# EAGLE library part STM32F103CBT6 (library IC)
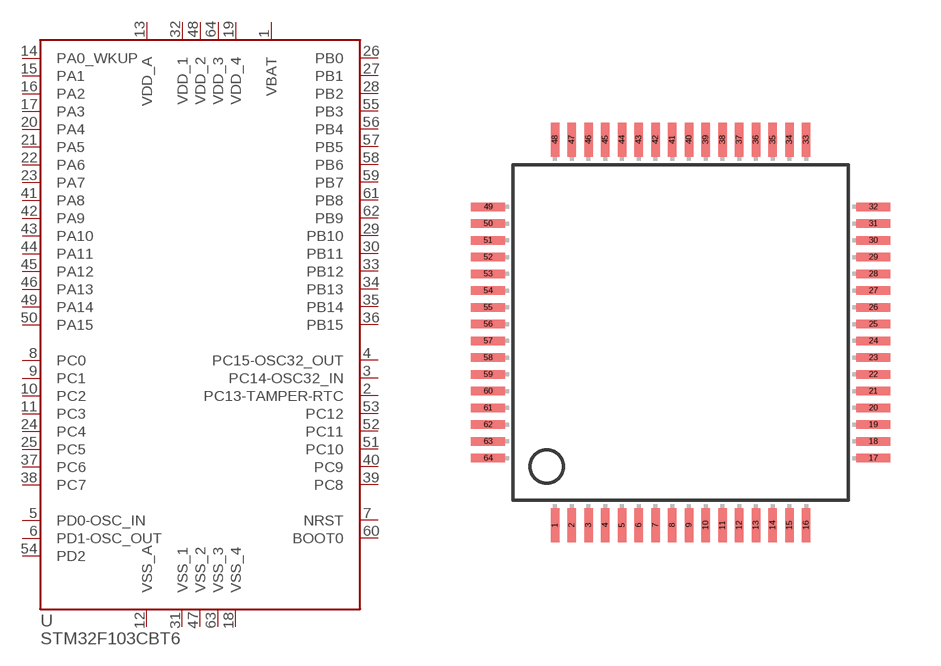
[diagram p129: symbol with the pads of LQFP64; footprint LQFP64]

Designator prefix U

## STM32F103CBT6  [LQFP64]
1  VBAT  pwr
2  PC13-TAMPER-RTC  in
3  PC14-OSC32_IN  in
4  PC15-OSC32_OUT  in
5  PD0-OSC_IN  in
6  PD1-OSC_OUT  in
7  NRST  in
8  PC0
9  PC1
10  PC2
11  PC3
12  VSS_A  pwr
13  VDD_A  pwr
14  PA0_WKUP
15  PA1
16  PA2
17  PA3
18  VSS_4  pwr
19  VDD_4  pwr
20  PA4
21  PA5
22  PA6
23  PA7
24  PC4
25  PC5
26  PB0
27  PB1
28  PB2
29  PB10  in
30  PB11  in
31  VSS_1  pwr
32  VDD_1  pwr
33  PB12  in
34  PB13  in
35  PB14  in
36  PB15  in
37  PC6
38  PC7
39  PC8
40  PC9
41  PA8
42  PA9  in
43  PA10
44  PA11
45  PA12
46  PA13
47  VSS_2  pwr
48  VDD_2  pwr
49  PA14
50  PA15
51  PC10
52  PC11
53  PC12
54  PD2
55  PB3
56  PB4
57  PB5  in
58  PB6  in
59  PB7
60  BOOT0  in
61  PB8
62  PB9  in
63  VSS_3  pwr
64  VDD_3  pwr

## Footprint LQFP64 (pad centres in mm)
L-Quad Flat Package, 64 leads
smd 0.254 x 1.016: 1 -3.75,-5.75; 2 -3.25,-5.75; 3 -2.75,-5.75; 4 -2.25,-5.75; 5 -1.75,-5.75; 6 -1.25,-5.75; 7 -0.75,-5.75; 8 -0.25,-5.75; 9 0.25,-5.75; 10 0.75,-5.75; 11 1.25,-5.75; 12 1.75,-5.75; 13 2.25,-5.75; 14 2.75,-5.75; 15 3.25,-5.75; 16 3.75,-5.75; 33 3.75,5.75; 34 3.25,5.75; 35 2.75,5.75; 36 2.25,5.75; 37 1.75,5.75; 38 1.25,5.75; 39 0.75,5.75; 40 0.25,5.75; 41 -0.25,5.75; 42 -0.75,5.75; 43 -1.25,5.75; 44 -1.75,5.75; 45 -2.25,5.75; 46 -2.75,5.75; 47 -3.25,5.75; 48 -3.75,5.75
smd 1.016 x 0.254: 17 5.75,-3.75; 18 5.75,-3.25; 19 5.75,-2.75; 20 5.75,-2.25; 21 5.75,-1.75; 22 5.75,-1.25; 23 5.75,-0.75; 24 5.75,-0.25; 25 5.75,0.25; 26 5.75,0.75; 27 5.75,1.25; 28 5.75,1.75; 29 5.75,2.25; 30 5.75,2.75; 31 5.75,3.25; 32 5.75,3.75; 49 -5.75,3.75; 50 -5.75,3.25; 51 -5.75,2.75; 52 -5.75,2.25; 53 -5.75,1.75; 54 -5.75,1.25; 55 -5.75,0.75; 56 -5.75,0.25; 57 -5.75,-0.25; 58 -5.75,-0.75; 59 -5.75,-1.25; 60 -5.75,-1.75; 61 -5.75,-2.25; 62 -5.75,-2.75; 63 -5.75,-3.25; 64 -5.75,-3.75